# EAGLE library part 62531020621 (library Wurth_Elektronik_Electromechanic_Wire_to_Board_Connectors_rev15c)
WR-BHD 2.00mm Male SMT Box Header High Temperature, 10 Pins=>Code : Con_WTB_BHD_2.00_Male_SMT_62531020621 <http://katalog.we-online.de/media/thumbs2/eican/thb_Con_WTB_BHD_2.00_Male_SMT_6253xx20621_pf2.jpg> Details see: http://katalog.we-online.de/en/em/625_3xx_206_21 Created 2014-06-05, Karrer Zheng 2014 (C) Würth Elektronik
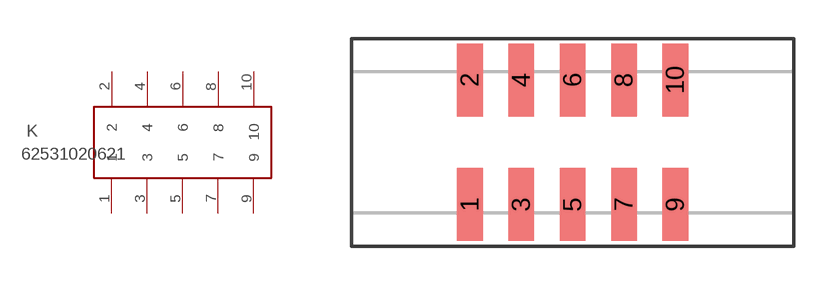
[diagram p265: symbol with the pads of 62531020621; footprint 62531020621]

Designator prefix K

## 62531020621  [62531020621]
1  1  pas
2  2  pas
3  3  pas
4  4  pas
5  5  pas
6  6  pas
7  7  pas
8  8  pas
9  9  pas
10  10  pas

## Footprint 62531020621 (pad centres in mm)
WRBHD-2.00mm Male SMT Box Header High Temperature,10 pins
smd 1 x 2.85: 1 -4,-2.425; 2 -4,2.425; 3 -2,-2.425; 4 -2,2.425; 5 0,-2.425; 6 0,2.425; 7 2,-2.425; 8 2,2.425; 9 4,-2.425; 10 4,2.425